# EAGLE library part BQ25010 (library TuansLib)
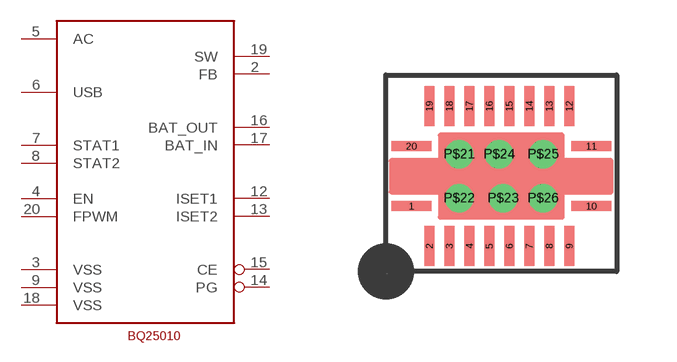
[diagram p5: symbol with the pads of VQFN_RHL_20PIN; footprint VQFN_RHL_20PIN]

Designator prefix -

## BQ25010  [VQFN_RHL_20PIN]
2  FB
3  VSS
4  EN
5  AC
6  USB
7  STAT1
8  STAT2
9  VSS
12  ISET1
13  ISET2
14  PG
15  CE
16  BAT_OUT
17  BAT_IN
18  VSS
19  SW
20  FPWM

## Footprint VQFN_RHL_20PIN (pad centres in mm)
smd 1 x 0.25: 1 0,1; 10 4.5,1; 11 4.5,2.5; 20 0,2.5
smd 0.25 x 1: 2 0.45,0; 3 0.95,0; 4 1.45,0; 5 1.95,0; 6 2.45,0; 7 2.95,0; 8 3.45,0; 9 3.95,0; 12 3.95,3.5; 13 3.45,3.5; 14 2.95,3.5; 15 2.45,3.5; 16 1.95,3.5; 17 1.45,3.5; 18 0.95,3.5; 19 0.45,3.5
drill 0.2: P$21 1.2,2.3; P$22 1.2,1.2; P$23 2.3,1.2; P$24 2.2,2.3; P$25 3.3,2.3; P$26 3.3,1.2